# Altium schematic symbol library INA181.Schlib: 1 symbol
Pins are listed as number, name and electrical type; pins without a type are passive.

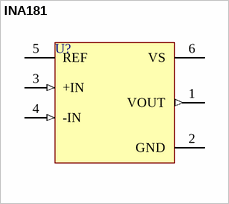
[diagram p0: symbol INA181]

## INA181
designator U?
Current-Sense Amplifiers
pins: 1 VOUT (out), 2 GND (power), 3 +IN (in), 4 -IN (in), 5 REF, 6 VS (power)